# Altium footprint library PcbLib1.PcbLib: 9 footprints
Each footprint in its own frame and in the unit in brackets; x right, y up, seen from the top. Pads: shape width x height; smd on the part's side, far side on the other; paste and mask are expansions set on the pad; w line width, h text height; cw(c..) or ccw(c..) is an arc to the next point about the centre after c.
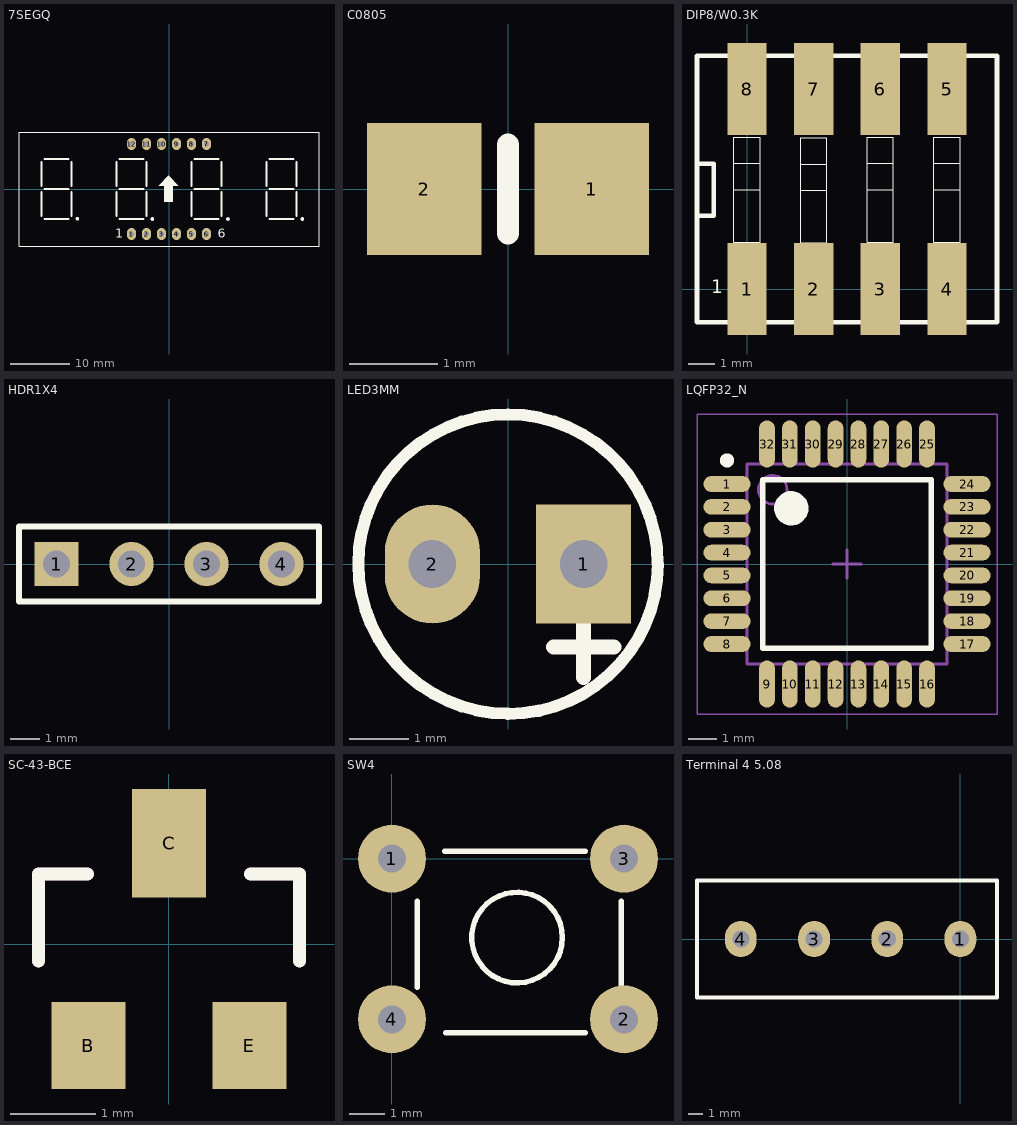
[diagram p0: the footprints below, top view; thin cyan lines are the x and y axes]

## 7SEGQ [mm] "DIP 12 Leads; Body 48 x 20 mm; Pitch 0.5 mm"
height 7.62
pads (12):
  oval 1.524x2 hole 0.8: 1(-6.35,-7.62) 2(-3.81,-7.62) 3(-1.27,-7.62) 4(1.27,-7.62) 5(3.81,-7.62) 6(6.35,-7.62) 7(6.35,7.62) 8(3.81,7.62) 9(1.27,7.62) 10(-1.27,7.62) 11(-3.81,7.62) 12(-6.35,7.62)
Top Overlay:
  drawing of 153 lines, arcs and shapes, not listed
  text "1" at -9.093,-8.23 h1.52
  text "6" at 8.255,-8.28 h1.52
3D body "SW3dPS-ldq-n516r1.STEP": height 8, standoff -3.5, extent -25.15,-9.5 25.15,9.5

## C0805 [mm] "Chip Capacitor; Body 2.0 x 1.2 mm (LxW typ)"
height 1.1
pads (2):
  rect 1.3x1.5 smd: 1(0.95,0) 2(-0.95,0)
Top Overlay:
  lines w0.254: 0,-0.5 0,0.5
3D body "SW3dPS-0805 SMD Capacitor.STEP": height 0.78, standoff 0, extent -1.016,-0.635 0.984,0.615

## DIP8/W0.3K [mm] "8 PIN, W 400mil , L 450mil, Pin to pin 100mil For Switch"
height 2.54
pads (8):
  rect 1.5x3.5 smd: 1(0,0) 2(2.54,0) 3(5.08,0) 4(7.62,0) 5(7.62,7.62) 6(5.08,7.62) 7(2.54,7.62) 8(0,7.62)
Top Overlay:
  lines w0.038: -0.5,3.785 0.5,3.785 ; -0.5,4.785 0.5,4.785 ; 2.04,3.759 3.04,3.759 ; 2.04,4.759 3.04,4.759 ; 4.58,3.785 5.58,3.785 ; 4.58,4.785 5.58,4.785 ; 7.12,3.785 8.12,3.785 ; 7.12,4.785 8.12,4.785 ; -0.5,1.785 -0.5,5.785 0.5,5.785 0.5,1.785 -0.5,1.785 ; 2.04,1.759 2.04,5.759 3.04,5.759 3.04,1.759 2.04,1.759 ; 4.58,1.785 4.58,5.785 5.58,5.785 5.58,1.785 4.58,1.785 ; 7.12,1.785 7.12,5.785 8.12,5.785 8.12,1.785 7.12,1.785
  lines w0.178: -1.905,1.74 -1.905,5.918 ; -1.905,2.794 -1.27,2.794 -1.27,4.775 -1.88,4.775 -1.905,4.801 ; -1.905,3.2 -1.905,-1.27 9.525,-1.27 9.525,8.89 -1.905,8.89 -1.905,4.47
  text "1" at -1.372,-0.152 h0.51
3D body "switch 4bank x1.STEP": height 4.32, standoff 0.05, extent -2.032,-1.145 9.598,8.765

## HDR1X4 [mm] "Connector; Header; 4 Position"
pads (4):
  rect 1.5x1.5 hole 0.9: 1(-3.81,0)
  round 1.5 hole 0.9: 2(-1.27,0) 3(1.27,0) 4(3.81,0)
Top Overlay:
  lines w0.2: -5.08,-1.27 5.08,-1.27 5.08,1.27 -5.08,1.27 -5.08,-1.27
3D body "User Library-Header_Male_4Pin.STEP": height 8.54, standoff -3, extent -5.09,-1.25 5.07,1.24

## LED3MM [mm]
pads (2):
  rect 1.6x2 hole 0.8: 1(1.27,0)
  oval 1.6x2 hole 0.8: 2(-1.27,0)
Top Overlay:
  lines w0.203: 0,-2.521 ccw(c0,0) 2.521,0 ; 0,-2.514 cw(c0,0) -2.514,0 cw(c0,0) 0,2.514 cw(c0,0) 2.514,0
  lines w0.254: 0.762,-1.397 1.778,-1.397 ; 1.27,-1.905 1.27,-0.889
3D body "SW3DPS-REDLED-DIP.step": height 5.38, standoff -3.17, extent -1.993,-1.994 1.993,1.499

## LQFP32_N [mm] "Thin QFP, 32-Leads, Body 7x7mm, Pitch 0.8mm, IPC Medium Density"
height 1.6
pads (32):
  oval 1.65x0.55 smd: 1(-4.2,2.8) 2(-4.2,2) 3(-4.2,1.2) 4(-4.2,0.4) 5(-4.2,-0.4) 6(-4.2,-1.2) 7(-4.2,-2) 8(-4.2,-2.8) 17(4.2,-2.8) 18(4.2,-2) 19(4.2,-1.2) 20(4.2,-0.4) 21(4.2,0.4) 22(4.2,1.2) 23(4.2,2) 24(4.2,2.8)
  oval 0.55x1.65 smd: 9(-2.8,-4.2) 10(-2,-4.2) 11(-1.2,-4.2) 12(-0.4,-4.2) 13(0.4,-4.2) 14(1.2,-4.2) 15(2,-4.2) 16(2.8,-4.2) 25(2.8,4.2) 26(2,4.2) 27(1.2,4.2) 28(0.4,4.2) 29(-0.4,4.2) 30(-1.2,4.2) 31(-2,4.2) 32(-2.8,4.2)
Top Overlay:
  circle w0.6: c-1.95,1.95 r0.3
  circle w0.25: c-4.2,3.625 r0.125
  lines w0.2: -2.95,-2.95 2.95,-2.95 2.95,2.95 -2.95,2.95 -2.95,-2.95
Mechanical 13:
  circle w0.1: c-2.6,2.6 r0.5
  lines w0.1: -3.5,-3.5 3.5,-3.5 3.5,3.5 -3.5,3.5 -3.5,-3.5
Mechanical 15:
  lines w0.05: -5.25,-5.25 5.25,-5.25 5.25,5.25 -5.25,5.25 -5.25,-5.25
  lines w0.1: -0.5,0 0.5,0 ; 0,-0.5 0,0.5
3D body: height 1.6, standoff 0, extent -3.5,-3.5 3.5,3.5

## SC-43-BCE [mil]
pads (3):
  rect 34x40 smd: B(-37.02,-46.5) E(37.02,-46.5)
  rect 34x50 smd: C(0.02,46.5)
Top Overlay:
  lines w6: -59.98,-7.5 -59.98,32.5 -37.48,32.5 ; 37.52,32.5 60.02,32.5 60.02,-7.5
Mechanical 1:
  lines w6: -59.98,-7.5 -59.98,32.5 -37.48,32.5 ; 37.52,32.5 60.02,32.5 60.02,-7.5
3D body "SOT233.step": height 40.89, standoff -2.41, extent -57.47,-52.41 56.7,57.83

## SW4 [mm] "SW button 4pin, 250 x250 mil"
height 2.54
pads (4):
  round 1.905 hole 0.787: 1(0,0) 2(6.5,-4.5) 3(6.5,0) 4(0,-4.5)
Top Overlay:
  circle w0.152: c3.505,-2.21 r1.27
  lines w0.152: 0.711,-3.607 0.711,-1.194 ; 1.473,0.203 5.41,0.203 ; 1.499,-4.877 5.41,-4.877 ; 6.426,-3.607 6.426,-1.194
  lines w0.178: 6.401,-5.258 6.426,-5.232
3D body "SW3dPS-Panasonic-EVQPA-Pushbutton.STEP": height 9.5, standoff -3.5, extent -0.804,-5.159 7.408,0.841

## Terminal 4 5.08 [mm] "Terminal block 5.08mm 3 ways"
pads (4):
  oval 2.2x2.5 hole 1.2: 1(0,0) 2(-5.08,0) 3(-10.16,0) 4(-15.24,0)
Top Overlay:
  lines w0.254: -18.288,-4.064 2.54,-4.064 2.54,4.064 -18.288,4.064 -18.288,-4.064
3D body "17430.stp": height 10, standoff -3.5, extent -18.319,-4.064 2.571,4.036